# Altium footprint library TerminalBlock_WAGO.PcbLib: 170 footprints (part 10 of 11)
Each footprint in its own frame and in the unit in brackets; x right, y up, seen from the top. Pads: shape width x height; smd on the part's side, far side on the other; paste and mask are expansions set on the pad; w line width, h text height; cw(c..) or ccw(c..) is an arc to the next point about the centre after c.
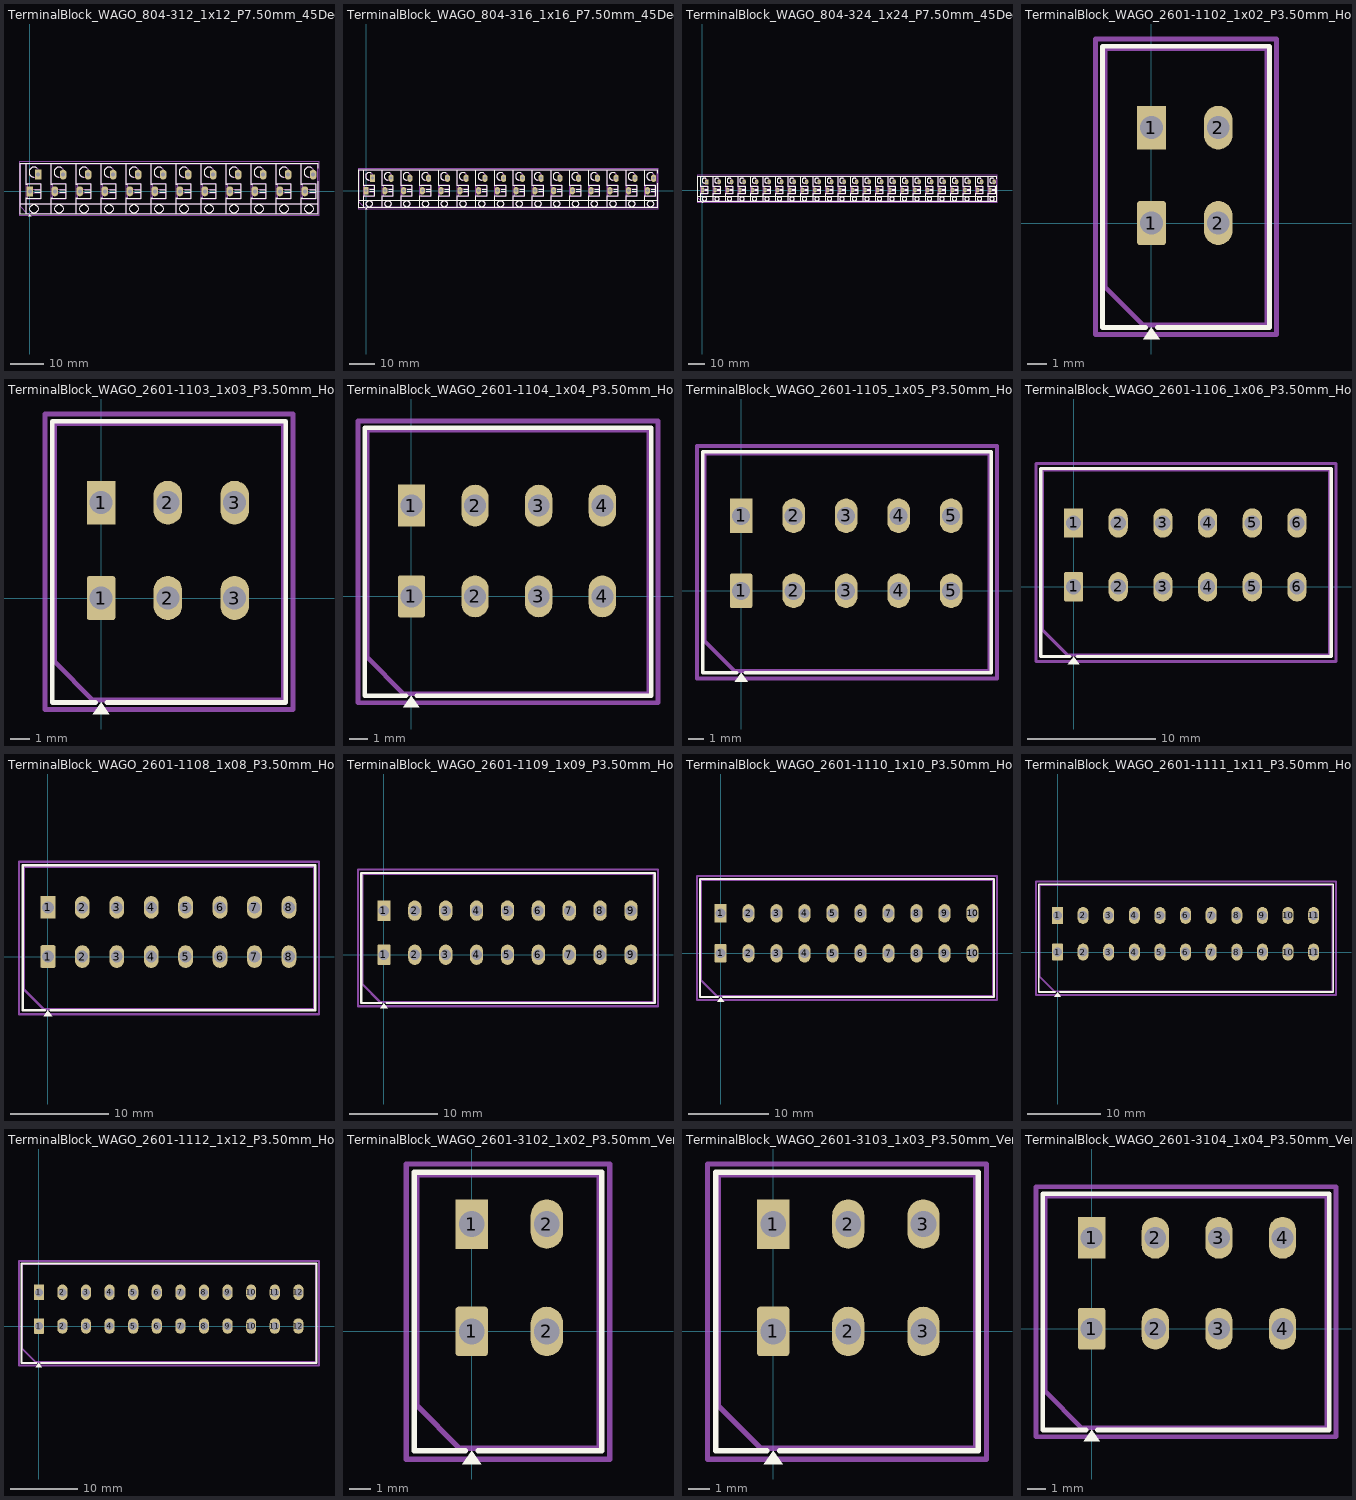
[diagram p9: the footprints below, top view; thin cyan lines are the x and y axes]

## TerminalBlock_WAGO_804-312_1x12_P7.50mm_45Degree [mm]
pads (24):
  rrect12% 2x3 hole 1.2: 1(0,0)
  rect 2x3 hole 1.2: 1(2.5,5)
  rrect100% 2x3 hole 1.2: 2(7.5,0) 2(10,5) 3(15,0) 3(17.5,5) 4(22.5,0) 4(25,5) 5(30,0) 5(32.5,5) 6(37.5,0) 6(40,5) 7(45,0) 7(47.5,5) 8(52.5,0) 8(55,5) 9(60,0) 9(62.5,5) 10(67.5,0) 10(70,5) 11(75,0) 11(77.5,5) 12(82.5,0) 12(85,5)
F.SilkS:
  drawing of 164 lines, arcs and shapes, not listed
F.Fab:
  circle w0.254: c1.25,5.75 r1.5
  circle w0.254: c8.75,5.75 r1.5
  circle w0.254: c16.25,5.75 r1.5
  circle w0.254: c23.75,5.75 r1.5
  circle w0.254: c31.25,5.75 r1.5
  circle w0.254: c38.75,5.75 r1.5
  circle w0.254: c46.25,5.75 r1.5
  circle w0.254: c53.75,5.75 r1.5
  circle w0.254: c61.25,5.75 r1.5
  circle w0.254: c68.75,5.75 r1.5
  circle w0.254: c76.25,5.75 r1.5
  circle w0.254: c83.75,5.75 r1.5
  lines w0.254: -2.75,-3.8 86.25,-3.8 ; -1.25,-6.7 -1.25,8.3 ; 6.25,-6.7 6.25,8.3 ; 13.75,-6.7 13.75,8.3 ; 21.25,-6.7 21.25,8.3 ; 28.75,-6.7 28.75,8.3 ; 36.25,-6.7 36.25,8.3 ; 43.75,-6.7 43.75,8.3 ; 51.25,-6.7 51.25,8.3 ; 58.75,-6.7 58.75,8.3 ; 66.25,-6.7 66.25,8.3 ; 73.75,-6.7 73.75,8.3 ; 81.25,-6.7 81.25,8.3 ; -2.75,-4.7 -2.75,8.3 86.25,8.3 86.25,-6.7 -0.75,-6.7 -2.75,-4.7 ; -0.75,-2.2 -0.75,2.2 3.25,2.2 3.25,-2.2 -0.75,-2.2 ; -0.75,-0.5 -0.75,0.5 3.25,0.5 3.25,-0.5 -0.75,-0.5 ; -0.2,-5.25 cw(c1.25,-5.589) 2.7,-5.25 cw(c1.25,-4.911) -0.2,-5.25 ; 6.75,-2.2 6.75,2.2 10.75,2.2 10.75,-2.2 6.75,-2.2 ; 6.75,-0.5 6.75,0.5 10.75,0.5 10.75,-0.5 6.75,-0.5 ; 7.3,-5.25 cw(c8.75,-5.589) 10.2,-5.25 cw(c8.75,-4.911) 7.3,-5.25 ; 14.25,-2.2 14.25,2.2 18.25,2.2 18.25,-2.2 14.25,-2.2 ; 14.25,-0.5 14.25,0.5 18.25,0.5 18.25,-0.5 14.25,-0.5 ; 14.8,-5.25 cw(c16.25,-5.589) 17.7,-5.25 cw(c16.25,-4.911) 14.8,-5.25 ; 21.75,-2.2 21.75,2.2 25.75,2.2 25.75,-2.2 21.75,-2.2 ; 21.75,-0.5 21.75,0.5 25.75,0.5 25.75,-0.5 21.75,-0.5 ; 22.3,-5.25 cw(c23.75,-5.589) 25.2,-5.25 cw(c23.75,-4.911) 22.3,-5.25 ; 29.25,-2.2 29.25,2.2 33.25,2.2 33.25,-2.2 29.25,-2.2 ; 29.25,-0.5 29.25,0.5 33.25,0.5 33.25,-0.5 29.25,-0.5 ; 29.8,-5.25 cw(c31.25,-5.589) 32.7,-5.25 cw(c31.25,-4.911) 29.8,-5.25 ; 36.75,-2.2 36.75,2.2 40.75,2.2 40.75,-2.2 36.75,-2.2 ; 36.75,-0.5 36.75,0.5 40.75,0.5 40.75,-0.5 36.75,-0.5 ; 37.3,-5.25 cw(c38.75,-5.589) 40.2,-5.25 cw(c38.75,-4.911) 37.3,-5.25 ; 44.25,-2.2 44.25,2.2 48.25,2.2 48.25,-2.2 44.25,-2.2 ; 44.25,-0.5 44.25,0.5 48.25,0.5 48.25,-0.5 44.25,-0.5 ; 44.8,-5.25 cw(c46.25,-5.589) 47.7,-5.25 cw(c46.25,-4.911) 44.8,-5.25 ; 51.75,-2.2 51.75,2.2 55.75,2.2 55.75,-2.2 51.75,-2.2 ; 51.75,-0.5 51.75,0.5 55.75,0.5 55.75,-0.5 51.75,-0.5 ; 52.3,-5.25 cw(c53.75,-5.589) 55.2,-5.25 cw(c53.75,-4.911) 52.3,-5.25 ; 59.25,-2.2 59.25,2.2 63.25,2.2 63.25,-2.2 59.25,-2.2 ; 59.25,-0.5 59.25,0.5 63.25,0.5 63.25,-0.5 59.25,-0.5 ; 59.8,-5.25 cw(c61.25,-5.589) 62.7,-5.25 cw(c61.25,-4.911) 59.8,-5.25 ; 66.75,-2.2 66.75,2.2 70.75,2.2 70.75,-2.2 66.75,-2.2 ; 66.75,-0.5 66.75,0.5 70.75,0.5 70.75,-0.5 66.75,-0.5 ; 67.3,-5.25 cw(c68.75,-5.589) 70.2,-5.25 cw(c68.75,-4.911) 67.3,-5.25 ; 74.25,-2.2 74.25,2.2 78.25,2.2 78.25,-2.2 74.25,-2.2 ; 74.25,-0.5 74.25,0.5 78.25,0.5 78.25,-0.5 74.25,-0.5 ; 74.8,-5.25 cw(c76.25,-5.589) 77.7,-5.25 cw(c76.25,-4.911) 74.8,-5.25 ; 81.75,-2.2 81.75,2.2 85.75,2.2 85.75,-2.2 81.75,-2.2 ; 81.75,-0.5 81.75,0.5 85.75,0.5 85.75,-0.5 81.75,-0.5 ; 82.3,-5.25 cw(c83.75,-5.589) 85.2,-5.25 cw(c83.75,-4.911) 82.3,-5.25
  text "'.Designator'" at 37.703,0.96 h1
F.CrtYd:
  lines w0.254: -3.25,-7.2 -3.25,8.8 86.75,8.8 86.75,-7.2 -3.25,-7.2

## TerminalBlock_WAGO_804-316_1x16_P7.50mm_45Degree [mm]
pads (32):
  rrect12% 2x3 hole 1.2: 1(0,0)
  rect 2x3 hole 1.2: 1(2.5,5)
  rrect100% 2x3 hole 1.2: 2(7.5,0) 2(10,5) 3(15,0) 3(17.5,5) 4(22.5,0) 4(25,5) 5(30,0) 5(32.5,5) 6(37.5,0) 6(40,5) 7(45,0) 7(47.5,5) 8(52.5,0) 8(55,5) 9(60,0) 9(62.5,5) 10(67.5,0) 10(70,5) 11(75,0) 11(77.5,5) 12(82.5,0) 12(85,5) 13(90,0) 13(92.5,5) 14(97.5,0) 14(100,5) 15(105,0) 15(107.5,5) 16(112.5,0) 16(115,5)
F.SilkS:
  drawing of 216 lines, arcs and shapes, not listed
F.Fab:
  drawing of 198 lines, arcs and shapes, not listed
  text "'.Designator'" at 52.703,0.96 h1
F.CrtYd:
  lines w0.254: -3.25,-7.2 -3.25,8.8 116.75,8.8 116.75,-7.2 -3.25,-7.2

## TerminalBlock_WAGO_804-324_1x24_P7.50mm_45Degree [mm]
pads (48):
  rrect12% 2x3 hole 1.2: 1(0,0)
  rect 2x3 hole 1.2: 1(2.5,5)
  rrect100% 2x3 hole 1.2: 2(7.5,0) 2(10,5) 3(15,0) 3(17.5,5) 4(22.5,0) 4(25,5) 5(30,0) 5(32.5,5) 6(37.5,0) 6(40,5) 7(45,0) 7(47.5,5) 8(52.5,0) 8(55,5) 9(60,0) 9(62.5,5) 10(67.5,0) 10(70,5) 11(75,0) 11(77.5,5) 12(82.5,0) 12(85,5) 13(90,0) 13(92.5,5) 14(97.5,0) 14(100,5) 15(105,0) 15(107.5,5) 16(112.5,0) 16(115,5) 17(120,0) 17(122.5,5) 18(127.5,0) 18(130,5) 19(135,0) 19(137.5,5) 20(142.5,0) 20(145,5) 21(150,0) 21(152.5,5) 22(157.5,0) 22(160,5) 23(165,0) 23(167.5,5) 24(172.5,0) 24(175,5)
F.SilkS:
  drawing of 320 lines, arcs and shapes, not listed
F.Fab:
  drawing of 294 lines, arcs and shapes, not listed
  text "'.Designator'" at 82.703,0.96 h1
F.CrtYd:
  lines w0.254: -3.25,-7.2 -3.25,8.8 176.75,8.8 176.75,-7.2 -3.25,-7.2

## TerminalBlock_WAGO_2601-1102_1x02_P3.50mm_Horizontal [mm]
pads (4):
  rrect17% 1.5x2.3 hole 1.2: 1(0,0)
  rect 1.5x2.3 hole 1.2: 1(0,5)
  rrect100% 1.5x2.3 hole 1.2: 2(3.5,0) 2(3.5,5)
F.SilkS:
  region: 0.44,-6.08 -0.44,-6.08 0,-5.47
  lines w0.254: -0.3,-5.47 -2.56,-5.47 -2.56,9.27 6.18,9.27 6.18,-5.47 0.3,-5.47
F.Fab:
  lines w0.254: -2.44,-3.35 -2.44,9.15 6.06,9.15 6.06,-5.35 -0.44,-5.35 -2.44,-3.35
  text "'.Designator'" at -2.237,1.06 h1
F.CrtYd:
  lines w0.254: -2.94,-5.85 -2.94,9.65 6.56,9.65 6.56,-5.85 -2.94,-5.85

## TerminalBlock_WAGO_2601-1103_1x03_P3.50mm_Horizontal [mm]
pads (6):
  rrect17% 1.5x2.3 hole 1.2: 1(0,0)
  rect 1.5x2.3 hole 1.2: 1(0,5)
  rrect100% 1.5x2.3 hole 1.2: 2(3.5,0) 2(3.5,5) 3(7,0) 3(7,5)
F.SilkS:
  region: 0.44,-6.08 -0.44,-6.08 0,-5.47
  lines w0.254: -0.3,-5.47 -2.56,-5.47 -2.56,9.27 9.68,9.27 9.68,-5.47 0.3,-5.47
F.Fab:
  lines w0.254: -2.44,-3.35 -2.44,9.15 9.56,9.15 9.56,-5.35 -0.44,-5.35 -2.44,-3.35
  text "'.Designator'" at -0.487,1.06 h1
F.CrtYd:
  lines w0.254: -2.94,-5.85 -2.94,9.65 10.06,9.65 10.06,-5.85 -2.94,-5.85

## TerminalBlock_WAGO_2601-1104_1x04_P3.50mm_Horizontal [mm]
pads (8):
  rrect17% 1.5x2.3 hole 1.2: 1(0,0)
  rect 1.5x2.3 hole 1.2: 1(0,5)
  rrect100% 1.5x2.3 hole 1.2: 2(3.5,0) 2(3.5,5) 3(7,0) 3(7,5) 4(10.5,0) 4(10.5,5)
F.SilkS:
  region: 0.44,-6.08 -0.44,-6.08 0,-5.47
  lines w0.254: -0.3,-5.47 -2.56,-5.47 -2.56,9.27 13.18,9.27 13.18,-5.47 0.3,-5.47
F.Fab:
  lines w0.254: -2.44,-3.35 -2.44,9.15 13.06,9.15 13.06,-5.35 -0.44,-5.35 -2.44,-3.35
  text "'.Designator'" at 1.263,1.06 h1
F.CrtYd:
  lines w0.254: -2.94,-5.85 -2.94,9.65 13.56,9.65 13.56,-5.85 -2.94,-5.85

## TerminalBlock_WAGO_2601-1105_1x05_P3.50mm_Horizontal [mm]
pads (10):
  rrect17% 1.5x2.3 hole 1.2: 1(0,0)
  rect 1.5x2.3 hole 1.2: 1(0,5)
  rrect100% 1.5x2.3 hole 1.2: 2(3.5,0) 2(3.5,5) 3(7,0) 3(7,5) 4(10.5,0) 4(10.5,5) 5(14,0) 5(14,5)
F.SilkS:
  region: 0.44,-6.08 -0.44,-6.08 0,-5.47
  lines w0.254: -0.3,-5.47 -2.56,-5.47 -2.56,9.27 16.68,9.27 16.68,-5.47 0.3,-5.47
F.Fab:
  lines w0.254: -2.44,-3.35 -2.44,9.15 16.56,9.15 16.56,-5.35 -0.44,-5.35 -2.44,-3.35
  text "'.Designator'" at 3.013,1.06 h1
F.CrtYd:
  lines w0.254: -2.94,-5.85 -2.94,9.65 17.06,9.65 17.06,-5.85 -2.94,-5.85

## TerminalBlock_WAGO_2601-1106_1x06_P3.50mm_Horizontal [mm]
pads (12):
  rrect17% 1.5x2.3 hole 1.2: 1(0,0)
  rect 1.5x2.3 hole 1.2: 1(0,5)
  rrect100% 1.5x2.3 hole 1.2: 2(3.5,0) 2(3.5,5) 3(7,0) 3(7,5) 4(10.5,0) 4(10.5,5) 5(14,0) 5(14,5) 6(17.5,0) 6(17.5,5)
F.SilkS:
  region: 0.44,-6.08 -0.44,-6.08 0,-5.47
  lines w0.254: -0.3,-5.47 -2.56,-5.47 -2.56,9.27 20.18,9.27 20.18,-5.47 0.3,-5.47
F.Fab:
  lines w0.254: -2.44,-3.35 -2.44,9.15 20.06,9.15 20.06,-5.35 -0.44,-5.35 -2.44,-3.35
  text "'.Designator'" at 4.763,1.06 h1
F.CrtYd:
  lines w0.254: -2.94,-5.85 -2.94,9.65 20.56,9.65 20.56,-5.85 -2.94,-5.85

## TerminalBlock_WAGO_2601-1108_1x08_P3.50mm_Horizontal [mm]
pads (16):
  rrect17% 1.5x2.3 hole 1.2: 1(0,0)
  rect 1.5x2.3 hole 1.2: 1(0,5)
  rrect100% 1.5x2.3 hole 1.2: 2(3.5,0) 2(3.5,5) 3(7,0) 3(7,5) 4(10.5,0) 4(10.5,5) 5(14,0) 5(14,5) 6(17.5,0) 6(17.5,5) 7(21,0) 7(21,5) 8(24.5,0) 8(24.5,5)
F.SilkS:
  region: 0.44,-6.08 -0.44,-6.08 0,-5.47
  lines w0.254: -0.3,-5.47 -2.56,-5.47 -2.56,9.27 27.18,9.27 27.18,-5.47 0.3,-5.47
F.Fab:
  lines w0.254: -2.44,-3.35 -2.44,9.15 27.06,9.15 27.06,-5.35 -0.44,-5.35 -2.44,-3.35
  text "'.Designator'" at 8.263,1.06 h1
F.CrtYd:
  lines w0.254: -2.94,-5.85 -2.94,9.65 27.56,9.65 27.56,-5.85 -2.94,-5.85

## TerminalBlock_WAGO_2601-1109_1x09_P3.50mm_Horizontal [mm]
pads (18):
  rrect17% 1.5x2.3 hole 1.2: 1(0,0)
  rect 1.5x2.3 hole 1.2: 1(0,5)
  rrect100% 1.5x2.3 hole 1.2: 2(3.5,0) 2(3.5,5) 3(7,0) 3(7,5) 4(10.5,0) 4(10.5,5) 5(14,0) 5(14,5) 6(17.5,0) 6(17.5,5) 7(21,0) 7(21,5) 8(24.5,0) 8(24.5,5) 9(28,0) 9(28,5)
F.SilkS:
  region: 0.44,-6.08 -0.44,-6.08 0,-5.47
  lines w0.254: -0.3,-5.47 -2.56,-5.47 -2.56,9.27 30.68,9.27 30.68,-5.47 0.3,-5.47
F.Fab:
  lines w0.254: -2.44,-3.35 -2.44,9.15 30.56,9.15 30.56,-5.35 -0.44,-5.35 -2.44,-3.35
  text "'.Designator'" at 10.013,1.06 h1
F.CrtYd:
  lines w0.254: -2.94,-5.85 -2.94,9.65 31.06,9.65 31.06,-5.85 -2.94,-5.85

## TerminalBlock_WAGO_2601-1110_1x10_P3.50mm_Horizontal [mm]
pads (20):
  rrect17% 1.5x2.3 hole 1.2: 1(0,0)
  rect 1.5x2.3 hole 1.2: 1(0,5)
  rrect100% 1.5x2.3 hole 1.2: 2(3.5,0) 2(3.5,5) 3(7,0) 3(7,5) 4(10.5,0) 4(10.5,5) 5(14,0) 5(14,5) 6(17.5,0) 6(17.5,5) 7(21,0) 7(21,5) 8(24.5,0) 8(24.5,5) 9(28,0) 9(28,5) 10(31.5,0) 10(31.5,5)
F.SilkS:
  region: 0.44,-6.08 -0.44,-6.08 0,-5.47
  lines w0.254: -0.3,-5.47 -2.56,-5.47 -2.56,9.27 34.18,9.27 34.18,-5.47 0.3,-5.47
F.Fab:
  lines w0.254: -2.44,-3.35 -2.44,9.15 34.06,9.15 34.06,-5.35 -0.44,-5.35 -2.44,-3.35
  text "'.Designator'" at 11.763,1.06 h1
F.CrtYd:
  lines w0.254: -2.94,-5.85 -2.94,9.65 34.56,9.65 34.56,-5.85 -2.94,-5.85

## TerminalBlock_WAGO_2601-1111_1x11_P3.50mm_Horizontal [mm]
pads (22):
  rrect17% 1.5x2.3 hole 1.2: 1(0,0)
  rect 1.5x2.3 hole 1.2: 1(0,5)
  rrect100% 1.5x2.3 hole 1.2: 2(3.5,0) 2(3.5,5) 3(7,0) 3(7,5) 4(10.5,0) 4(10.5,5) 5(14,0) 5(14,5) 6(17.5,0) 6(17.5,5) 7(21,0) 7(21,5) 8(24.5,0) 8(24.5,5) 9(28,0) 9(28,5) 10(31.5,0) 10(31.5,5) 11(35,0) 11(35,5)
F.SilkS:
  region: 0.44,-6.08 -0.44,-6.08 0,-5.47
  lines w0.254: -0.3,-5.47 -2.56,-5.47 -2.56,9.27 37.68,9.27 37.68,-5.47 0.3,-5.47
F.Fab:
  lines w0.254: -2.44,-3.35 -2.44,9.15 37.56,9.15 37.56,-5.35 -0.44,-5.35 -2.44,-3.35
  text "'.Designator'" at 13.513,1.06 h1
F.CrtYd:
  lines w0.254: -2.94,-5.85 -2.94,9.65 38.06,9.65 38.06,-5.85 -2.94,-5.85

## TerminalBlock_WAGO_2601-1112_1x12_P3.50mm_Horizontal [mm]
pads (24):
  rrect17% 1.5x2.3 hole 1.2: 1(0,0)
  rect 1.5x2.3 hole 1.2: 1(0,5)
  rrect100% 1.5x2.3 hole 1.2: 2(3.5,0) 2(3.5,5) 3(7,0) 3(7,5) 4(10.5,0) 4(10.5,5) 5(14,0) 5(14,5) 6(17.5,0) 6(17.5,5) 7(21,0) 7(21,5) 8(24.5,0) 8(24.5,5) 9(28,0) 9(28,5) 10(31.5,0) 10(31.5,5) 11(35,0) 11(35,5) 12(38.5,0) 12(38.5,5)
F.SilkS:
  region: 0.44,-6.08 -0.44,-6.08 0,-5.47
  lines w0.254: -0.3,-5.47 -2.56,-5.47 -2.56,9.27 41.18,9.27 41.18,-5.47 0.3,-5.47
F.Fab:
  lines w0.254: -2.44,-3.35 -2.44,9.15 41.06,9.15 41.06,-5.35 -0.44,-5.35 -2.44,-3.35
  text "'.Designator'" at 15.263,1.06 h1
F.CrtYd:
  lines w0.254: -2.94,-5.85 -2.94,9.65 41.56,9.65 41.56,-5.85 -2.94,-5.85

## TerminalBlock_WAGO_2601-3102_1x02_P3.50mm_Vertical [mm]
pads (4):
  rrect17% 1.5x2.3 hole 1.2: 1(0,0)
  rect 1.5x2.3 hole 1.2: 1(0,5)
  rrect100% 1.5x2.3 hole 1.2: 2(3.5,0) 2(3.5,5)
F.SilkS:
  region: 0.44,-6.18 -0.44,-6.18 0,-5.57
  lines w0.254: -0.3,-5.57 -2.68,-5.57 -2.68,7.42 6.06,7.42 6.06,-5.57 0.3,-5.57
F.Fab:
  lines w0.254: -2.56,-3.45 -2.56,7.3 5.94,7.3 5.94,-5.45 -0.56,-5.45 -2.56,-3.45
  text "'.Designator'" at -2.357,0.085 h1
F.CrtYd:
  lines w0.254: -3.06,-5.95 -3.06,7.8 6.44,7.8 6.44,-5.95 -3.06,-5.95

## TerminalBlock_WAGO_2601-3103_1x03_P3.50mm_Vertical [mm]
pads (6):
  rrect17% 1.5x2.3 hole 1.2: 1(0,0)
  rect 1.5x2.3 hole 1.2: 1(0,5)
  rrect100% 1.5x2.3 hole 1.2: 2(3.5,0) 2(3.5,5) 3(7,0) 3(7,5)
F.SilkS:
  region: 0.44,-6.18 -0.44,-6.18 0,-5.57
  lines w0.254: -0.3,-5.57 -2.68,-5.57 -2.68,7.42 9.56,7.42 9.56,-5.57 0.3,-5.57
F.Fab:
  lines w0.254: -2.56,-3.45 -2.56,7.3 9.44,7.3 9.44,-5.45 -0.56,-5.45 -2.56,-3.45
  text "'.Designator'" at -0.607,0.085 h1
F.CrtYd:
  lines w0.254: -3.06,-5.95 -3.06,7.8 9.94,7.8 9.94,-5.95 -3.06,-5.95

## TerminalBlock_WAGO_2601-3104_1x04_P3.50mm_Vertical [mm]
pads (8):
  rrect17% 1.5x2.3 hole 1.2: 1(0,0)
  rect 1.5x2.3 hole 1.2: 1(0,5)
  rrect100% 1.5x2.3 hole 1.2: 2(3.5,0) 2(3.5,5) 3(7,0) 3(7,5) 4(10.5,0) 4(10.5,5)
F.SilkS:
  region: 0.44,-6.18 -0.44,-6.18 0,-5.57
  lines w0.254: -0.3,-5.57 -2.68,-5.57 -2.68,7.42 13.06,7.42 13.06,-5.57 0.3,-5.57
F.Fab:
  lines w0.254: -2.56,-3.45 -2.56,7.3 12.94,7.3 12.94,-5.45 -0.56,-5.45 -2.56,-3.45
  text "'.Designator'" at 1.143,0.085 h1
F.CrtYd:
  lines w0.254: -3.06,-5.95 -3.06,7.8 13.44,7.8 13.44,-5.95 -3.06,-5.95